# Altium footprint library adafruit.PCBLIB: 624 footprints (part 36 of 39)
Each footprint in its own frame and in the unit in brackets; x right, y up, seen from the top. Pads: shape width x height; smd on the part's side, far side on the other; paste and mask are expansions set on the pad; w line width, h text height; cw(c..) or ccw(c..) is an arc to the next point about the centre after c.
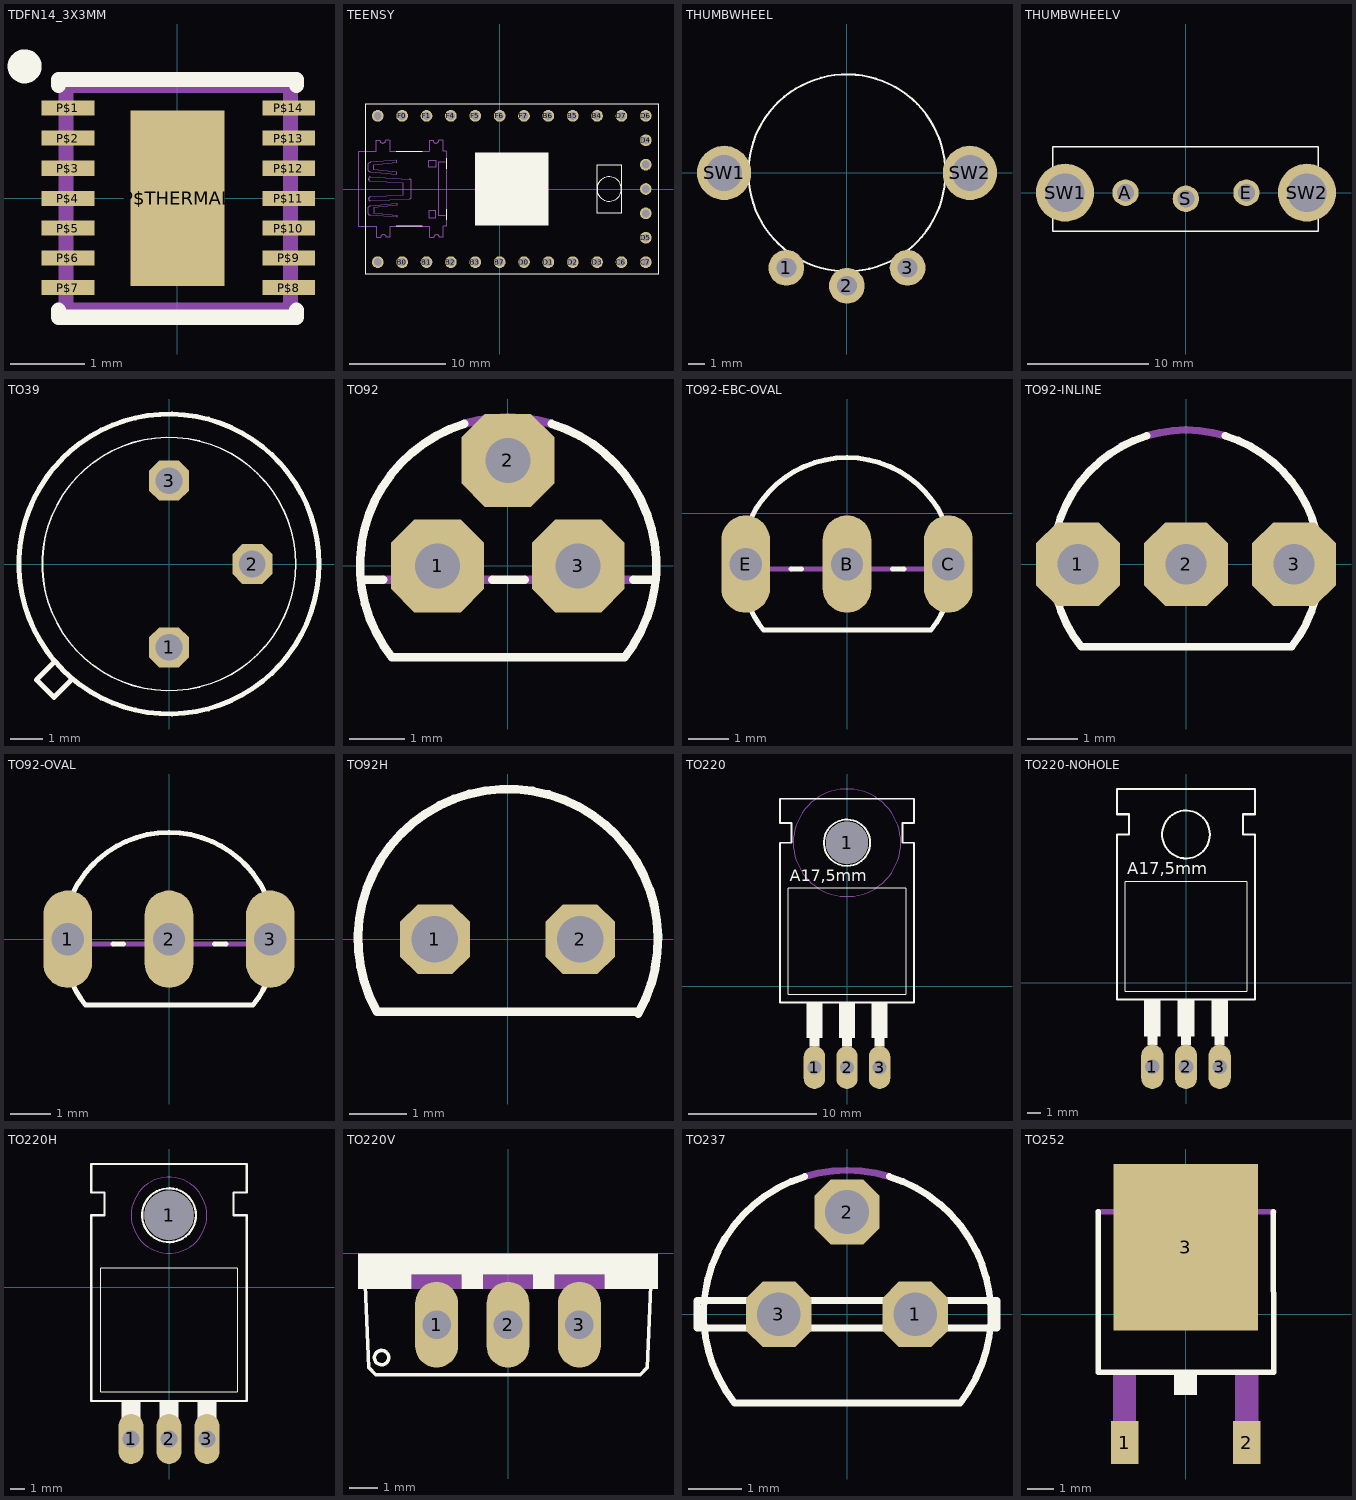
[diagram p35: the footprints below, top view; thin cyan lines are the x and y axes]

## TDFN14_3X3MM [mil]
pads (15):
  rect 28x8 smd: P$1(-58.07,48) P$2(-58.07,32) P$3(-58.07,16) P$4(-58.07,0) P$5(-58.07,-15.75) P$6(-58.07,-31.5) P$7(-58.07,-47.24) P$8(59,-47.24) P$9(59,-31.5) P$10(59,-15.75) P$11(59,0) P$12(59,16) P$13(59,32) P$14(59,48)
  rect 50x93 smd: P$THERMAL(0,0)
Top Overlay:
  circle w12: c-81,70 r3
  lines w8: -62.99,-59.06 -62.99,-62.99 63,-62.99 63,-59.06 ; -62.99,60 -62.99,63 63,63 63,60
Top Paste:
  rectangle: -19.68,8 -3.94,40
  rectangle: 4,8 20,40
  rectangle: -19.68,-39.37 -3.94,-7.87
  rectangle: 4,-39.37 20,-7.87
  rectangle: -68.9,44 -47.24,51
  rectangle: -68.9,29 -47.24,35
  rectangle: -68.9,13 -47.24,20
  rectangle: -68.9,-3.44 -47.24,4
  rectangle: -68.9,-19.19 -47.24,-12.3
  rectangle: -68.9,-34.94 -47.24,-28.05
  rectangle: -68.9,-50.69 -47.24,-43.8
  rectangle: 48,-50.69 69,-43.8
  rectangle: 48,-34.94 69,-28.05
  rectangle: 48,-19.19 69,-12.3
  rectangle: 48,-3.44 69,4
  rectangle: 48,13 69,20
  rectangle: 48,29 69,35
  rectangle: 48,44 69,51
Top Solder:
  rectangle: -74.8,-54.13 -41.34,55
  rectangle: 42,-54.13 75,55
Mechanical 16:
  lines w8: -59.06,-59.06 60,-59.06 60,60 -59.06,60 -59.06,-59.06

## TEENSY [mil]
pads (29):
  round 48 hole 32: B0(-400,-300) B1(-300,-300) B2(-200,-300) B3(-100,-300) B4(400,300) B5(300,300) B6(200,300) B7(0,-300) C6(500,-300) C7(600,-300) D0(100,-300) D1(200,-300) D2(300,-300) D3(400,-300) D4(600,200) D5(600,-200) D6(600,300) D7(500,300) F0(-400,300) F1(-300,300) F4(-200,300) F5(-100,300) F6(0,300) F7(100,300) GND(-500,-300) GND2(600,0) RST(600,100) VCC(600,-100) VCC1(-500,300)
Top Overlay:
  circle w5: c450,0 r50
  rectangle: -100,-150 200,150
  lines w4: -538.04,41 -538.04,41
  lines w5: -423.62,-153.54 -317.32,-153.54 ; -423.62,154 -317.32,154 ; -218.9,-125.98 -218.9,-82.68 ; -218.9,83 -218.9,126 ; -550,-350 650,-350 650,350 -550,350 -550,-350 ; 400,-100 500,-100 500,100 400,100 400,-100
Mechanical 16:
  lines w4: -505.49,154 -505.49,200 ; -505.12,200 -491.34,200 ccw(c-479.53,200) -467.72,200 -451.97,200 ; -504.69,-198.03 -504.69,-152.76 ; -503.94,-198.82 -488.19,-198.82 cw(c-476.38,-198.82) -464.57,-198.82 -450.79,-198.82 ; -451.21,154 -451.21,200 ; -450.42,-198.03 -450.42,-152.76 ; -287.38,154 -287.38,200 ; -287.01,200 -273.23,200 ccw(c-261.42,200) -249.61,200 -233.86,200 ; -286.58,-198.03 -286.58,-152.76 ; -285.83,-198.82 -270.08,-198.82 cw(c-258.27,-198.82) -246.46,-198.82 -232.68,-198.82 ; -233.1,154 -233.1,200 ; -232.31,-198.03 -232.31,-152.76 ; -222.83,-108.27 -252.36,-108.27 -252.36,109 -222.83,109 ; -540.08,-100.14 ccw(c-528.98,-96.74) -529.86,-108.31 -421.54,-116.49 -421.54,-108.31 -515.56,-98.1 -515.56,-77.66 -421.54,-67.44 -421.54,-59.26 -529.86,-69.48 ccw(c-528.98,-81.06) -540.08,-77.66 ccw(c-503.42,-88.9) -540.08,-100.14 ; -540.08,78 cw(c-502.58,89.5) -540.08,101 cw(c-529.11,97.52) -529.86,109 -421.54,117 -421.54,109 -515.56,99 -515.56,78 -421.54,68 -421.54,60 -529.86,70 cw(c-529.11,81.48) -540.08,78 ; -538.04,-40.87 ccw(c-529.86,-40.87) -529.86,-49.04 -370.44,-40.87 ccw(c-370.92,-32.22) -362.27,-32.69 -362.27,33 ccw(c-370.81,32.44) -370.44,41 -529.86,50 ccw(c-529.45,41.41) -538.04,41 ccw(c-529.95,41.09) -529.86,33 -394.97,25 -394.97,-24.52 -529.86,-32.69 ccw(c-529.86,-40.87) -538.04,-40.87 ; -291.73,-118.11 -291.73,-88.58 -262.2,-88.58 -262.2,-118.11 -291.73,-118.11 ; -291.73,89 -262.2,89 -262.2,119 -291.73,119 -291.73,89
  lines w5: -581.1,-153.54 -506.3,-153.54 ; -581.1,154 -506.3,154 ; -450.79,154 -289.37,154 ; -448.82,-153.54 -287.4,-153.54 ; -232.68,154 -218.9,154 ; -230.71,-153.54 -218.9,-153.54
Mechanical 30:
  lines w5: -581.1,-153.54 -581.1,154 ; -218.9,-153.54 -218.9,154

## THUMBWHEEL [mil]
pads (5):
  round 86 hole 48: 1(-145.67,-228.35) 2(0,-271.65) 3(146,-228.35)
  round 130.5 hole 87: SW1(-295.28,0) SW2(296,0)
Top Overlay:
  circle w5: c0,0 r237

## THUMBWHEELV [mil]
pads (5):
  round 86 hole 56: A(-196.85,0) E(197,0) S(0,-19.68)
  round 189 hole 126: SW1(-393.7,0) SW2(394,0)
Top Overlay:
  lines w5: -433.07,-125.98 -433.07,150 430,150 430,-125.98 -433.07,-125.98

## TO39 [mil]
pads (3):
  oct 48x48 hole 32: 1(0,-100) 2(100,0) 3(0,100)
Top Overlay:
  circle w6: c0,0 r180
  circle w2: c0,0 r152
  lines w6: -138,-118 -159,-139 -138,-160 -117,-139

## TO92 [mil]
pads (3):
  oct 66x66 hole 32: 1(-50,0) 2(0,75) 3(50,0)
Top Overlay:
  lines w6: -104.53,-10 -88.74,-10 ; -30.98,101 ccw(c0.21,0.33) -82.48,-65 83,-65 ccw(c0.06,0.16) 31,101 ; -11.26,-10 12,-10 ; 89,-10 105,-10
Mechanical 16:
  lines w6: -88.74,-10 -11.26,-10 ; -30.96,101 cw(c0.02,0.61) 31,101 ; 12,-10 89,-10

## TO92-EBC-OVAL [mil]
pads (3):
  oval 48x96 hole 32: B(0,-50) C(100,-50) E(-100,-50)
Top Overlay:
  lines w5: -95.02,-94.72 ccw(c-0.02,-50) -82.48,-115 83,-115 ccw(c0.55,-49.91) 96,-93.77 ; -95,-5.28 cw(c0,-50) 95,-5.28 ; -55.28,-55 -44.72,-55 ; 45,-55 56,-55
Mechanical 16:
  lines w5: -104.88,-55 -55.28,-55 ; -95,-94.72 cw(c0,-50) -95,-5.28 ; -44.72,-55 45,-55 ; 56,-55 105,-55 ; 95,-94.72 ccw(c0,-50) 95,-5.28

## TO92-INLINE [mil]
pads (3):
  oct 66x66 hole 32: 1(-85,0) 2(0,0) 3(85,0)
Top Overlay:
  lines w6: -104.53,-10 -88.74,-10 ; -82.48,-65 83,-65 ccw(c0.06,0.16) 31,101 ; -82.46,-65 cw(c0.23,0.33) -30.96,101 ; 89,-10 105,-10
Mechanical 16:
  lines w6: -30.96,101 cw(c0.02,0.6) 31,101

## TO92-OVAL [mil]
pads (3):
  oval 48x96 hole 32: 1(-100,0) 2(0,0) 3(100,0)
Top Overlay:
  lines w5: -95.02,-44.72 ccw(c-0.02,0) -82.48,-65 83,-65 ccw(c0.55,0.09) 96,-43.77 ; -95,45 cw(c0,0.28) 95,45 ; -55.28,-5 -44.72,-5 ; 45,-5 56,-5
Mechanical 16:
  lines w5: -104.88,-5 -55.28,-5 ; -95,-44.72 cw(c0.3,0.14) -95,45 ; -44.72,-5 45,-5 ; 56,-5 105,-5 ; 95,-44.72 ccw(c-0.3,0.14) 95,45

## TO92H [mil]
pads (2):
  oct 48x48 hole 32: 1(-50,0) 2(50,0)
Top Overlay:
  lines w6: 90,-51.08 ccw(c0.3,0.17) -90,-50 90,-50

## TO220 [mil]
pads (4):
  oval 66x132 hole 44: 1(-100,-250) 2(0,-250) 3(100,-250)
  round 130 hole 130: 1(0,440)
Top Overlay:
  circle w6: c0,440 r71
  rectangle: 85,-185 115,-160
  rectangle: -15,-185 15,-160
  rectangle: -115,-185 -85,-160
  rectangle: -125,-160 -75,-50
  rectangle: -25,-160 25,-50
  rectangle: 75,-160 125,-50
  lines w2: -180,-25 180,-25 180,300 -180,300 -180,-25
  lines w6: -205,-50 205,-50 205,440 170,440 170,500 205,500 205,575 -205,575 -205,500 -170,500 -170,440 -205,440 -205,-50
  text "A17,5mm" at -175,310 h62
Mechanical 9:
  circle w0: c0,440 r165
Mechanical 10:
  circle w0: c0,440 r165
Mechanical 16:
  rectangle: -115,-260 -85,-185
  rectangle: -15,-260 15,-185
  rectangle: 85,-260 115,-185
  text "1" at -125,0 h77.5
  text "2" at -25,0 h77.5
  text "3" at 75,0 h77.5

## TO220-NOHOLE [mil]
pads (3):
  oval 66x132 hole 44: 1(-100,-250) 2(0,-250) 3(100,-250)
Top Overlay:
  circle w6: c0,440 r71
  rectangle: 85,-185 115,-160
  rectangle: -15,-185 15,-160
  rectangle: -115,-185 -85,-160
  rectangle: -125,-160 -75,-50
  rectangle: -25,-160 25,-50
  rectangle: 75,-160 125,-50
  lines w2: -180,-25 180,-25 180,300 -180,300 -180,-25
  lines w6: -205,-50 205,-50 205,440 170,440 170,500 205,500 205,575 -205,575 -205,500 -170,500 -170,440 -205,440 -205,-50
  text "A17,5mm" at -175,310 h62
Mechanical 16:
  rectangle: -115,-260 -85,-185
  rectangle: -15,-260 15,-185
  rectangle: 85,-260 115,-185
  text "1" at -125,0 h77.5
  text "2" at -25,0 h77.5
  text "3" at 75,0 h77.5

## TO220H [mil]
pads (4):
  oval 66x132 hole 44: 1(-100,-400) 2(0,-400) 3(100,-400)
  round 130 hole 130: 1(0,190)
Top Overlay:
  circle w6: c0,190 r71
  rectangle: 85,-435 115,-410
  rectangle: -15,-435 15,-410
  rectangle: -115,-435 -85,-410
  rectangle: -125,-410 -75,-300
  rectangle: -25,-410 25,-300
  rectangle: 75,-410 125,-300
  lines w2: -180,-275 180,-275 180,50 -180,50 -180,-275
  lines w6: -205,-300 205,-300 205,190 170,190 170,250 205,250 205,325 -205,325 -205,250 -170,250 -170,190 -205,190 -205,-300
Mechanical 9:
  circle w0: c0,190 r100
Mechanical 10:
  circle w0: c0,190 r100

## TO220V [mil]
pads (3):
  oval 60x120 hole 40: 1(-100,-100) 2(0,-100) 3(100,-100)
Top Overlay:
  circle w5: c-177,-146 r10
  rectangle: -210,-30 210,0
  rectangle: -210,-50 -135,-30
  rectangle: -65,-50 -35,-30
  rectangle: 35,-50 65,-30
  rectangle: 135,-50 210,-30
  lines w5: -200,-45 -195,-160 -185,-170 185,-170 195,-160 200,-45
Mechanical 16:
  rectangle: -135,-50 -65,-30
  rectangle: -35,-50 35,-30
  rectangle: 65,-50 135,-30
  text "1" at -125,-125 h77.5
  text "2" at -25,-125 h77.5
  text "3" at 75,-125 h77.5

## TO237 [mil]
pads (3):
  oct 48x48 hole 32: 1(50,0) 2(0,75) 3(-50,0)
Top Overlay:
  lines w5: -30.96,101 ccw(c0.23,0.33) -82.46,-65 83,-65 ccw(c0.06,0.16) 31,101 ; -110,-10 110,-10 110,10 -110,10 -110,-10
Mechanical 16:
  lines w5: -30.96,101 cw(c0.02,0.6) 31,101
  text "2" at -20,20 h77.5
  text "3" at -85,20 h77.5
  text "1" at 50,20 h77.5

## TO252 [mil]
pads (3):
  rect 40x63 smd: 1(-89.76,-188.98) 2(90,-188.98)
  rect 213x245 smd: 3(0,99)
Top Overlay:
  rectangle: -17,-119 17,-89
  lines w8: -129,151 -129.02,-85 130,-85 129,151
Mechanical 16:
  rectangle: -107,-203 -73,-89
  rectangle: 73,-203 107,-89
  region: 0,0 10,0 10,10 0,10
  lines w8: -129.02,151 130,151 ; -101,155 -101,183 -83,201 83,201 101,183 101,155 -101,155